# EAGLE library part 74*139 (library lpatiny)
2-line to 4-line DECODER/DEMULTIPLEXER
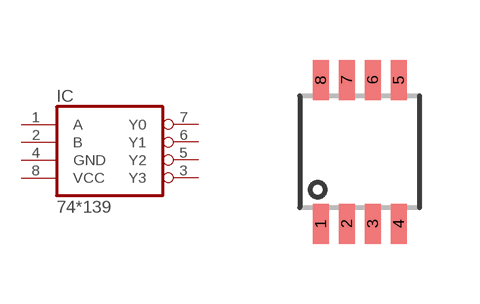
[diagram p17: symbol with the pads of SSOP08; footprint SSOP08]

Designator prefix IC

## 74139  [SSOP08]
1  A  in
2  B  in
3  Y3  out
4  GND  pwr
5  Y2  out
6  Y1  out
7  Y0  out
8  VCC  pwr

## Footprint SSOP08 (pad centres in mm)
SMT SSOP 08
smd 0.4 x 1: 1 -0.975,-1.8; 2 -0.325,-1.8; 3 0.325,-1.8; 4 0.975,-1.8; 5 0.975,1.8; 6 0.325,1.8; 7 -0.325,1.8; 8 -0.975,1.8